# EAGLE library part ATMEGA328 (library Chips)
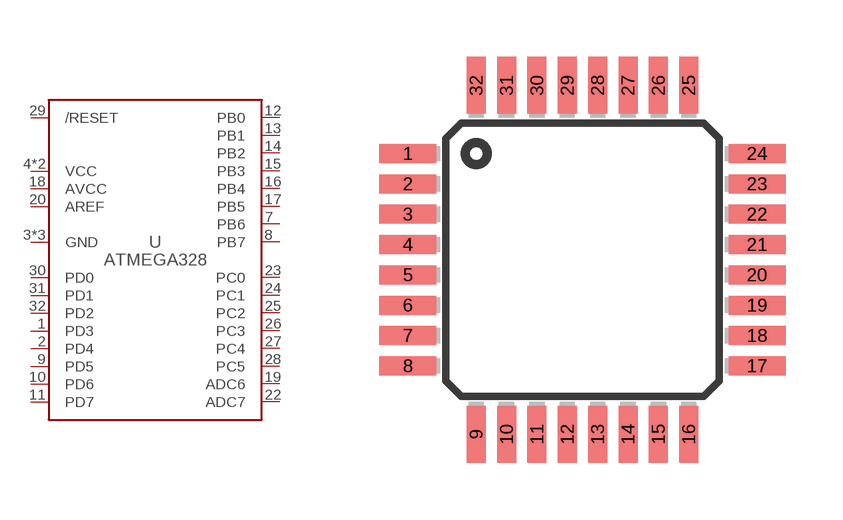
[diagram p14: symbol with the pads of 32QFP; footprint 32QFP]

Designator prefix U

## ATMEGA328  [32QFP]
1  PD3
2  PD4
3  GND
4  VCC
5  GND
6  VCC
7  PB6
8  PB7
9  PD5
10  PD6
11  PD7
12  PB0
13  PB1
14  PB2
15  PB3
16  PB4
17  PB5
18  AVCC
19  ADC6
20  AREF
21  GND
22  ADC7
23  PC0
24  PC1
25  PC2
26  PC3
27  PC4
28  PC5
29  /RESET
30  PD0
31  PD1
32  PD2

## Footprint 32QFP (pad centres in mm)
smd 1.5 x 0.5: 1 -4.6,2.8; 2 -4.6,2; 3 -4.6,1.2; 4 -4.6,0.4; 5 -4.6,-0.4; 6 -4.6,-1.2; 7 -4.6,-2; 8 -4.6,-2.8; 17 4.6,-2.8; 18 4.6,-2; 19 4.6,-1.2; 20 4.6,-0.4; 21 4.6,0.4; 22 4.6,1.2; 23 4.6,2; 24 4.6,2.8
smd 0.5 x 1.5: 9 -2.8,-4.6; 10 -2,-4.6; 11 -1.2,-4.6; 12 -0.4,-4.6; 13 0.4,-4.6; 14 1.2,-4.6; 15 2,-4.6; 16 2.8,-4.6; 25 2.8,4.6; 26 2,4.6; 27 1.2,4.6; 28 0.4,4.6; 29 -0.4,4.6; 30 -1.2,4.6; 31 -2,4.6; 32 -2.8,4.6